# EAGLE library part NRPN03 (library con-sullins-nrpn)
HEADER
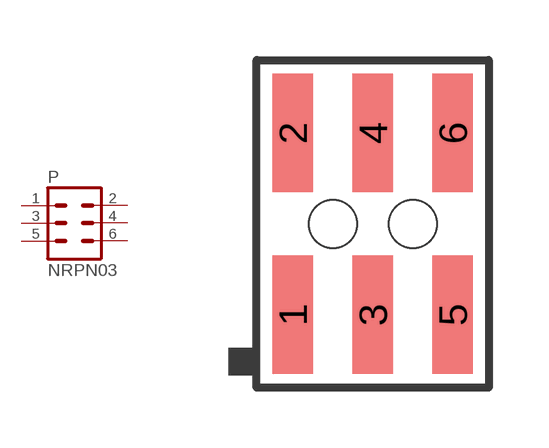
[diagram p0: symbol with the pads of NRPN03; footprint NRPN03]

Designator prefix P

## NRPN03  [NRPN03]
1  1  pas
2  2  pas
3  3  pas
4  4  pas
5  5  pas
6  6  pas

## Footprint NRPN03 (pad centres in mm)
HEADER
smd 1.02 x 2.95: 1 -2,-2.275; 2 -2,2.275; 3 0,-2.275; 4 0,2.275; 5 2,-2.275; 6 2,2.275
hole 1.2 at -1,0
hole 1.2 at 1,0